# Altium footprint library Diode.PcbLib: 33 footprints (part 1 of 3)
Each footprint in its own frame and in the unit in brackets; x right, y up, seen from the top. Pads: shape width x height; smd on the part's side, far side on the other; paste and mask are expansions set on the pad; w line width, h text height; cw(c..) or ccw(c..) is an arc to the next point about the centre after c.
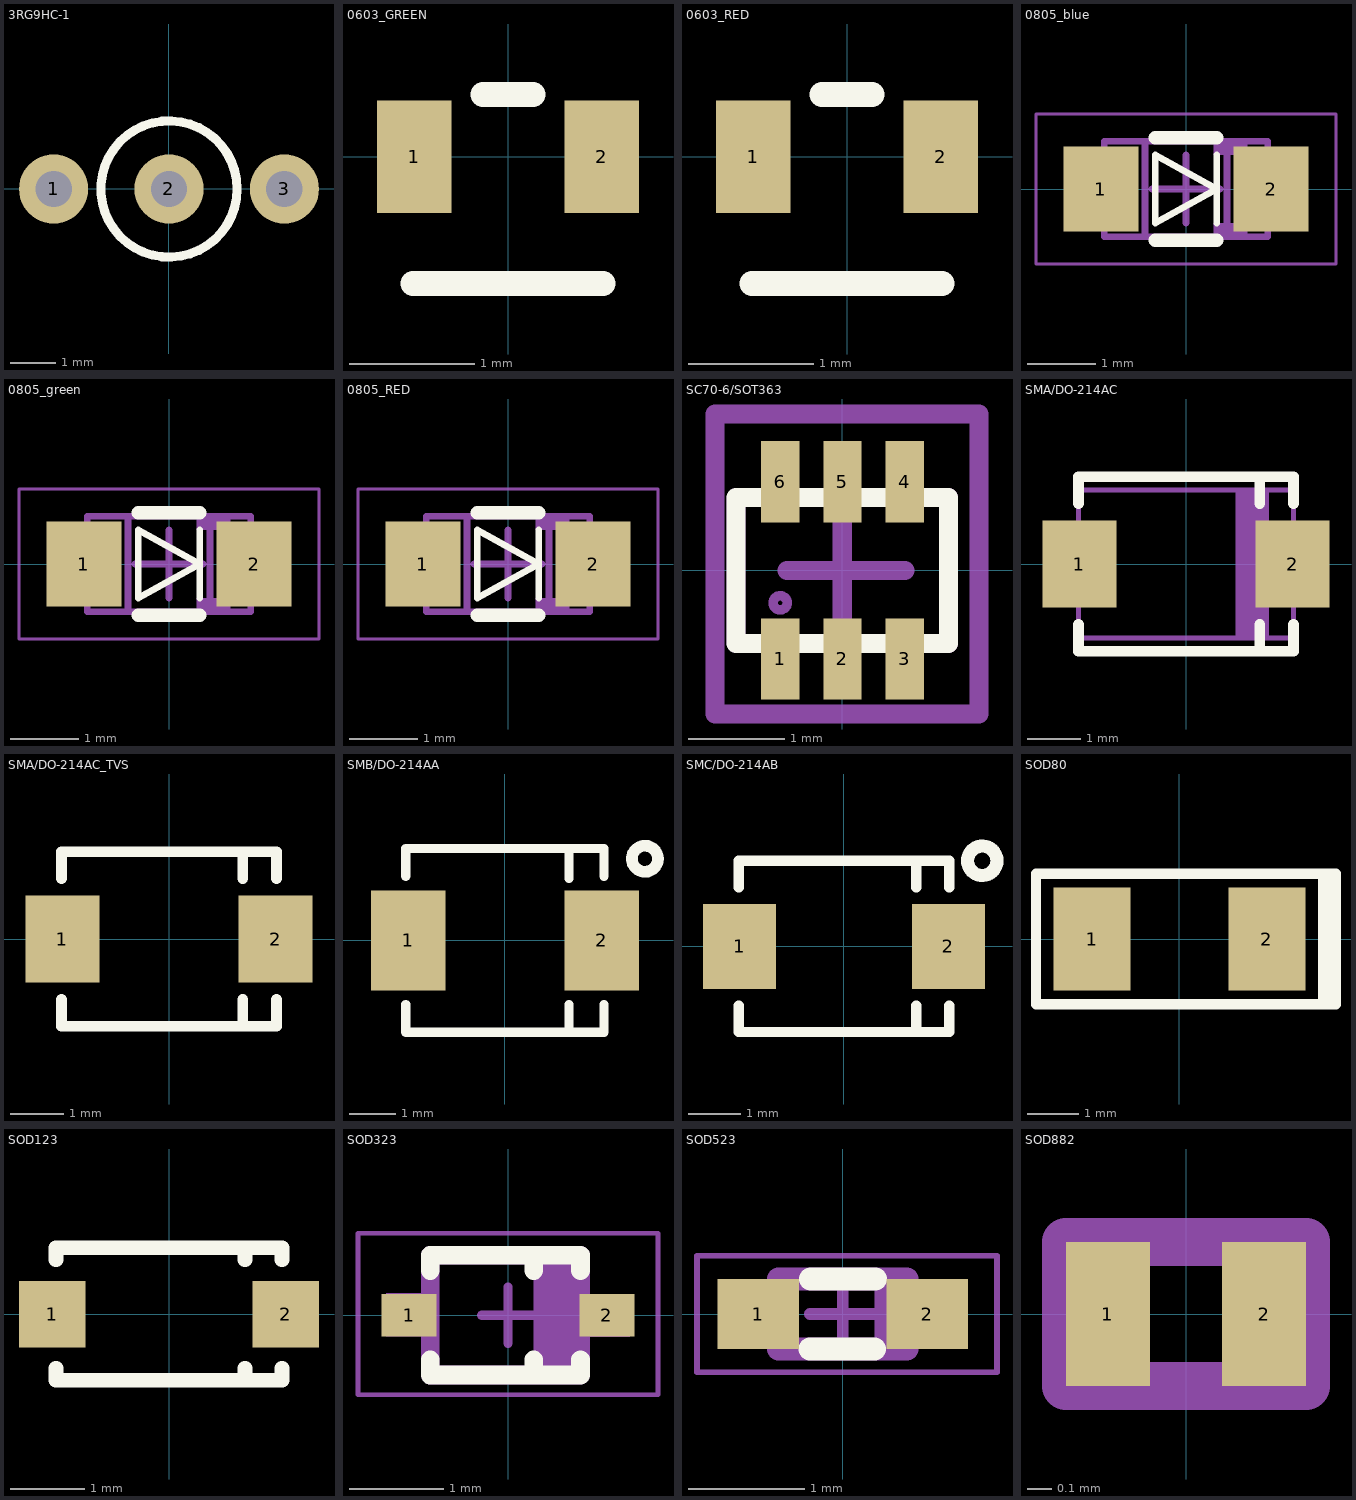
[diagram p0: the footprints below, top view; thin cyan lines are the x and y axes]

## 3RG9HC-1 [mil] "3RG9HC-1"
pads (3):
  round 60 hole 31.5: 1(-100,0) 2(0,0) 3(100,0)
Top Overlay:
  circle w7.87: c0,0 r59.06
3D body "led 3mm 3 pin v2.step": height 272.15, standoff -235.72, extent -113.77,-66.93 113.79,78.74

## 0603_GREEN [mm]
pads (2):
  rect 0.6x0.9 smd: 1(-0.75,0) 2(0.75,0)
Top Overlay:
  lines w0.2: -0.762,-1.016 0.762,-1.016 ; -0.2,0.5 0.2,0.5
3D body "led0603_GRE.step": height 0.81, standoff 0.01, extent -0.81,-0.846 0.81,0.254

## 0603_RED [mm]
pads (2):
  rect 0.6x0.9 smd: 1(-0.75,0) 2(0.75,0)
Top Overlay:
  lines w0.2: -0.762,-1.016 0.762,-1.016 ; -0.2,0.5 0.2,0.5
3D body "led0603_RED.step": height 0.81, standoff 0.01, extent -0.81,-0.846 0.81,0.254

## 0805_blue [mm]
pads (2):
  rect 1.1x1.25 smd: 1(-1.25,0) 2(1.25,0)
Top Overlay:
  lines w0.1: 0.45,-0.5 0.45,0.5 ; -0.45,-0.5 0.45,0 -0.45,0.5 -0.45,-0.5
  lines w0.2: -0.45,-0.75 0.45,-0.75 ; -0.45,0.75 0.45,0.75
Mechanical 13:
  rectangle: 0.4,-0.7 0.9,-0.5
  rectangle: 0.4,0.5 0.9,0.7
  lines w0.1: -0.6,-0.7 -0.6,0.7 ; 0.6,-0.7 0.6,0.7 ; -1.2,-0.7 -1.2,-0.2 ccw(c-1.2,0) -1.2,0.2 -1.2,0.7 1.2,0.7 1.2,0.2 ccw(c1.2,0) 1.2,-0.2 1.2,-0.7 -1.2,-0.7
  text ".Designator" at -1.15,0.883 h0.4
Mechanical 15:
  lines w0.05: -2.2,-1.1 -2.2,1.1 2.2,1.1 2.2,-1.1 -2.2,-1.1
  lines w0.1: -0.5,0 0.5,0 ; 0,-0.5 0,0.5
3D body "Blue_0805.step": height 0.81, standoff 0.01, extent -1.05,-0.675 1.05,0.675

## 0805_green [mm]
pads (2):
  rect 1.1x1.25 smd: 1(-1.25,0) 2(1.25,0)
Top Overlay:
  lines w0.1: 0.45,-0.5 0.45,0.5 ; -0.45,-0.5 -0.45,0.5 0.45,0 -0.45,-0.5
  lines w0.2: -0.45,-0.75 0.45,-0.75 ; -0.45,0.75 0.45,0.75
Mechanical 13:
  rectangle: 0.4,0.5 0.9,0.7
  rectangle: 0.4,-0.7 0.9,-0.5
  lines w0.1: -0.6,-0.7 -0.6,0.7 ; 0.6,-0.7 0.6,0.7 ; -1.2,-0.7 1.2,-0.7 1.2,-0.2 cw(c1.2,0) 1.2,0.2 1.2,0.7 -1.2,0.7 -1.2,0.2 cw(c-1.2,0) -1.2,-0.2 -1.2,-0.7
  text ".Designator" at -1.15,0.883 h0.4
Mechanical 15:
  lines w0.05: -2.2,-1.1 2.2,-1.1 2.2,1.1 -2.2,1.1 -2.2,-1.1
  lines w0.1: -0.5,0 0.5,0 ; 0,-0.5 0,0.5
3D body "Green_0805.step": height 1.11, standoff 0.01, extent -1.01,-0.625 1.01,0.625

## 0805_RED [mm]
pads (2):
  rect 1.1x1.25 smd: 1(-1.25,0) 2(1.25,0)
Top Overlay:
  lines w0.1: 0.45,-0.5 0.45,0.5 ; -0.45,-0.5 -0.45,0.5 0.45,0 -0.45,-0.5
  lines w0.2: -0.45,-0.75 0.45,-0.75 ; -0.45,0.75 0.45,0.75
Mechanical 13:
  rectangle: 0.4,0.5 0.9,0.7
  rectangle: 0.4,-0.7 0.9,-0.5
  lines w0.1: -0.6,-0.7 -0.6,0.7 ; 0.6,-0.7 0.6,0.7 ; -1.2,-0.7 1.2,-0.7 1.2,-0.2 cw(c1.2,0) 1.2,0.2 1.2,0.7 -1.2,0.7 -1.2,0.2 cw(c-1.2,0) -1.2,-0.2 -1.2,-0.7
  text ".Designator" at -1.15,0.883 h0.4
Mechanical 15:
  lines w0.05: -2.2,-1.1 2.2,-1.1 2.2,1.1 -2.2,1.1 -2.2,-1.1
  lines w0.1: -0.5,0 0.5,0 ; 0,-0.5 0,0.5
3D body "Red_0805.step": height 0.92, standoff 0.01, extent -1.05,-0.675 1.05,0.675

## SC70-6/SOT363 [mm]
pads (6):
  rect 0.4x0.85 smd: 1(-0.65,-0.925) 2(0,-0.925) 3(0.65,-0.925) 4(0.65,0.925) 5(0,0.925) 6(-0.65,0.925)
Top Overlay:
  lines w0.2: -1.112,-0.762 -1.112,0.762 1.108,0.762 1.108,-0.762 -1.112,-0.762
Mechanical 13:
  circle w0.1: c-0.65,-0.339 r0.074
  rectangle: -0.798,-1.048 -0.476,-0.762
  rectangle: -0.148,-1.048 0.174,-0.762
  rectangle: 0.502,-1.048 0.824,-0.762
  region: 0.798,1.048 0.476,1.048 0.476,0.762 0.798,0.762
  region: 0.148,1.048 -0.174,1.048 -0.174,0.762 0.148,0.762
  region: -0.502,1.048 -0.824,1.048 -0.824,0.762 -0.502,0.762
  lines w0.2: -1.112,-0.762 1.108,-0.762 1.108,0.762 -1.112,0.762 -1.112,-0.762
  text ".Designator" at -2.499,-0.167 h0.5
Mechanical 15:
  lines w0.2: -0.576,0 0.65,0 ; -0.002,-0.762 -0.002,0.762 ; -1.33,-1.499 -1.33,1.633 1.425,1.633 1.425,-1.499 -1.33,-1.499
3D body "User Library-SC70-6.step": height 0.91, standoff -0.04, extent -1,-1.05 1,1.05

## SMA/DO-214AC [mm]
pads (2):
  rect 1.4x1.64 smd: 1(-2.015,0) 2(2.015,0)
Top Overlay:
  lines w0.2: -2.032,-1.143 -2.032,-1.651 2.032,-1.651 2.032,-1.143 ; -2.032,1.143 -2.032,1.651 2.032,1.651 2.032,1.143 ; 1.397,-1.651 1.397,-1.143 ; 1.397,1.143 1.397,1.651
Mechanical 13:
  region: -2.032,0.5 -2.582,0.5 -2.582,-0.5 -2.032,-0.5
  rectangle: 2.032,-0.5 2.582,0.5
  rectangle: 0.933,-1.397 1.568,1.397
  lines w0.1: 1.397,-1.397 1.397,1.397 ; -2.032,-1.397 -2.032,1.397 2.032,1.397 2.032,-1.397 -2.032,-1.397
3D body "SMA_DO-214AC.step": height 2.56, standoff -0.01, extent -2.75,-1.4 2.75,1.4

## SMA/DO-214AC_TVS [mm]
pads (2):
  rect 1.4x1.64 smd: 1(-2.015,0) 2(2.015,0)
Top Overlay:
  lines w0.2: -2.032,-1.143 -2.032,-1.651 2.032,-1.651 2.032,-1.143 ; -2.032,1.143 -2.032,1.651 2.032,1.651 2.032,1.143 ; 1.397,-1.651 1.397,-1.143 ; 1.397,1.143 1.397,1.651
3D body "SMA_DO-214AC.step": height 2.56, standoff -0.01, extent -2.75,-1.4 2.75,1.4

## SMB/DO-214AA [mm]
pads (2):
  rect 1.62x2.18 smd: 1(-2.11,0) 2(2.11,0)
Top Overlay:
  circle w0.254: c3.048,1.778 r0.284
  lines w0.2: -2.159,-1.397 -2.159,-2 2.159,-2 2.159,-1.397 ; -2.159,1.397 -2.159,2 2.159,2 2.159,1.397 ; 1.397,-2 1.397,-1.397 ; 1.397,1.349 1.397,1.953
3D body "SMB_DO-214AA.step": height 2.47, standoff -0.32, extent -2.742,-1.95 2.907,1.95

## SMC/DO-214AB [mm]
pads (2):
  rect 1.4x1.64 smd: 1(-2.015,0) 2(2.015,0)
Top Overlay:
  circle w0.254: c2.667,1.651 r0.284
  lines w0.2: -2.032,-1.143 -2.032,-1.651 2.032,-1.651 2.032,-1.143 ; -2.032,1.143 -2.032,1.651 2.032,1.651 2.032,1.143 ; 1.397,-1.651 1.397,-1.143 ; 1.397,1.143 1.397,1.651
3D body "DO-214AB-SMC.step": height 2.4, standoff -0.05, extent -3.891,-2.8 3.909,3.1

## SOD80 [mm]
pads (2):
  rect 1.5x2 smd: 1(-1.7,0) 2(1.7,0)
Top Overlay:
  lines w0.2: 2.794,0.381 2.794,-1.27 ; 2.794,-1.27 -2.794,-1.27 -2.794,1.27 2.794,1.27 ; 2.794,-1.27 2.794,1.27 ; 2.794,-1.27 3.048,-1.27 3.048,1.27 ; 2.794,-1.27 2.921,-1.143 2.921,0.508 2.921,1.143 3.048,1.27 ; 2.794,1.27 3.048,1.27
3D body "SOD80_MiniMelf.step": height 1.6, standoff 0, extent -1.82,-0.8 1.88,0.8

## SOD123 [mm]
pads (2):
  rect 0.9x0.9 smd: 1(-1.575,0) 2(1.575,0)
Top Overlay:
  lines w0.2: -1.524,-0.726 -1.524,-0.889 1.524,-0.889 1.524,-0.726 ; -1.524,0.737 -1.524,0.9 1.524,0.9 1.524,0.737 ; 1.024,-0.889 1.024,-0.726 ; 1.024,0.737 1.024,0.9
3D body "SOD123-1.step": height 1.18, standoff 0, extent -1.95,-0.9 1.95,0.9

## SOD323 [mm]
pads (2):
  rect 0.59x0.45 smd: 1(-1.055,0) 2(1.055,0)
Top Overlay:
  lines w0.2: -0.829,-0.476 -0.829,-0.639 0.774,-0.639 0.774,-0.476 ; -0.829,0.476 -0.829,0.639 0.774,0.639 0.774,0.476 ; 0.274,-0.639 0.274,-0.476 ; 0.274,0.476 0.274,0.639
Mechanical 13:
  rectangle: 0.274,-0.639 0.774,0.639
  rectangle: -1.3,-0.225 -0.829,0.234
  region: 1.3,0.225 0.829,0.225 0.829,-0.234 1.3,-0.234
  lines w0.2: -0.829,-0.639 0.774,-0.639 0.774,0.639 -0.829,0.639 -0.829,-0.639
  text ".Designator" at -2.524,1.058 h0.5
Mechanical 15:
  lines w0.05: -1.6,-0.85 1.6,-0.85 1.6,0.875 -1.6,0.875 -1.6,-0.85
  lines w0.1: -0.28,0 0.274,0 ; 0,-0.3 0,0.3
3D body "SOD-323.step": height 1.1, standoff 0, extent -1.3,-0.675 1.3,0.675

## SOD523 [mm]
pads (2):
  rect 0.7x0.6 smd: 1(-0.725,0) 2(0.725,0)
Top Overlay:
  lines w0.2: -0.28,-0.3 0.274,-0.3 ; -0.274,0.3 0.28,0.3
Mechanical 13:
  region: 0.584,0.3 0.274,0.3 0.274,-0.3 0.584,-0.3
  rectangle: -0.81,-0.229 -0.59,0.229
  region: 0.81,0.229 0.59,0.229 0.59,-0.229 0.81,-0.229
  lines w0.2: -0.55,-0.3 0.55,-0.3 0.55,0.3 -0.55,0.3 -0.55,-0.3
  text ".Designator" at -1.999,0.642 h0.4
Mechanical 15:
  lines w0.05: -1.25,-0.5 -1.25,0.5 1.325,0.5 1.325,-0.5 -1.25,-0.5
  lines w0.1: -0.28,0 0.274,0 ; 0,-0.3 0,0.3
3D body "SOD-523.step": height 0.71, standoff 0.01, extent -0.8,-0.399 0.8,0.399

## SOD882 [mm]
pads (2):
  rect 0.35x0.6 smd: 1(-0.325,0) 2(0.325,0)
Mechanical 13:
  rectangle: -0.423,-0.3 -0.2,0.3
  lines w0.2: -0.5,-0.3 0.5,-0.3 0.5,0.3 -0.5,0.3 -0.5,-0.3
  text ".Designator" at -1.999,0.867 h0.4
3D body "SOD882.step": height 0.52, standoff 0.01, extent -0.493,-0.292 0.493,0.292